# Altium schematic symbol library AS0512S-1W.SchLib: 1 symbol
Pins are listed as number, name and electrical type; pins without a type are passive.

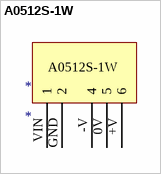
[diagram p0: symbol A0512S-1W]

## A0512S-1W
designator *
footprint SIP6
pins: 0V 5, +V 6 (power), -V 4 (power), GND 2 (power), VIN 1 (power)